# EAGLE library part FABO-BEACON-BLUEGIGA (library FaBo-Template)
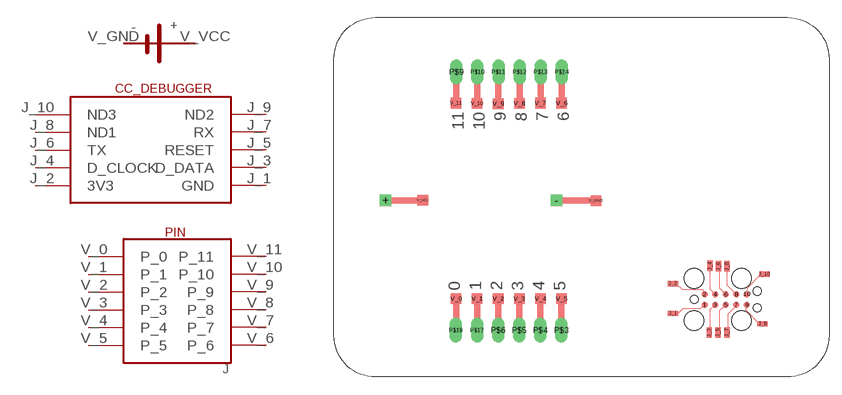
[diagram p8: symbol with the pads of FABO-BEACON-BLUEGIGA; footprint FABO-BEACON-BLUEGIGA]

Designator prefix J

## FABO-BEACON-BLUEGIGA  [FABO-BEACON-BLUEGIGA]
J_1  GND
J_2  3V3
J_3  D_DATA
J_4  D_CLOCK
J_5  RESET
J_6  TX
J_7  RX
J_8  ND1
J_9  ND2
J_10  ND3
V_0  P_0
V_1  P_1
V_2  P_2
V_3  P_3
V_4  P_4
V_5  P_5
V_6  P_6
V_7  P_7
V_8  P_8
V_9  P_9
V_10  P_10
V_11  P_11
V_GND  GND
V_VCC  VCC

## Footprint FABO-BEACON-BLUEGIGA (pad centres in mm)
smd 0.787 x 0.787: 1 17.78,-12.573; 2 17.78,-11.303; 3 19.05,-12.573; 4 19.05,-11.303; 5 20.32,-12.573; 6 20.32,-11.303; 7 21.59,-12.573; 8 21.59,-11.303; 9 22.86,-12.573; 10 22.86,-11.303
drill 0.9 square: + -20.68,0.025; - -0.08,0.025
smd 1.27 x 0.635: J_1 13.981,-13.602; J_2 13.952,-10.021; J_9 24.776,-14.872; J_10 25.001,-8.878
smd 0.635 x 1.27: J_3 18.322,-15.914; J_4 18.424,-7.862; J_5 19.388,-15.914; J_6 19.443,-7.913; J_7 20.459,-15.914; J_8 20.459,-7.913
drill 1 pad 1.422 long: P$3 0.517,-15.653; P$4 -2.023,-15.653; P$5 -4.563,-15.653; P$6 -7.103,-15.653; P$9 -12.131,15.503; P$10 -9.591,15.503; P$11 -7.051,15.503; P$12 -4.511,15.503; P$13 -1.971,15.503; P$14 0.569,15.503; P$17 -9.643,-15.653; P$18 -12.183,-15.653
smd 1.27 x 1.27: V_0 -12.17,-11.843; V_1 -9.63,-11.843; V_2 -7.09,-11.843; V_3 -4.55,-11.843; V_4 -2.01,-11.843; V_5 0.53,-11.843; V_6 0.555,11.754; V_7 -2.01,11.754; V_8 -4.55,11.729; V_9 -7.09,11.678; V_10 -9.63,11.703; V_11 -12.17,11.754; V_GND 4.67,-0.006; V_VCC -16.183,0.045
hole 0.991 at 16.51,-11.938
hole 0.991 at 24.13,-10.922
hole 0.991 at 24.13,-12.954
hole 2.375 at 16.51,-9.398
hole 2.375 at 16.51,-14.478
hole 2.375 at 22.225,-9.398
hole 2.375 at 22.225,-14.478